# Altium integrated library BB Instrumentation Amplifier.IntLib: 107 symbols (part 2 of 3)
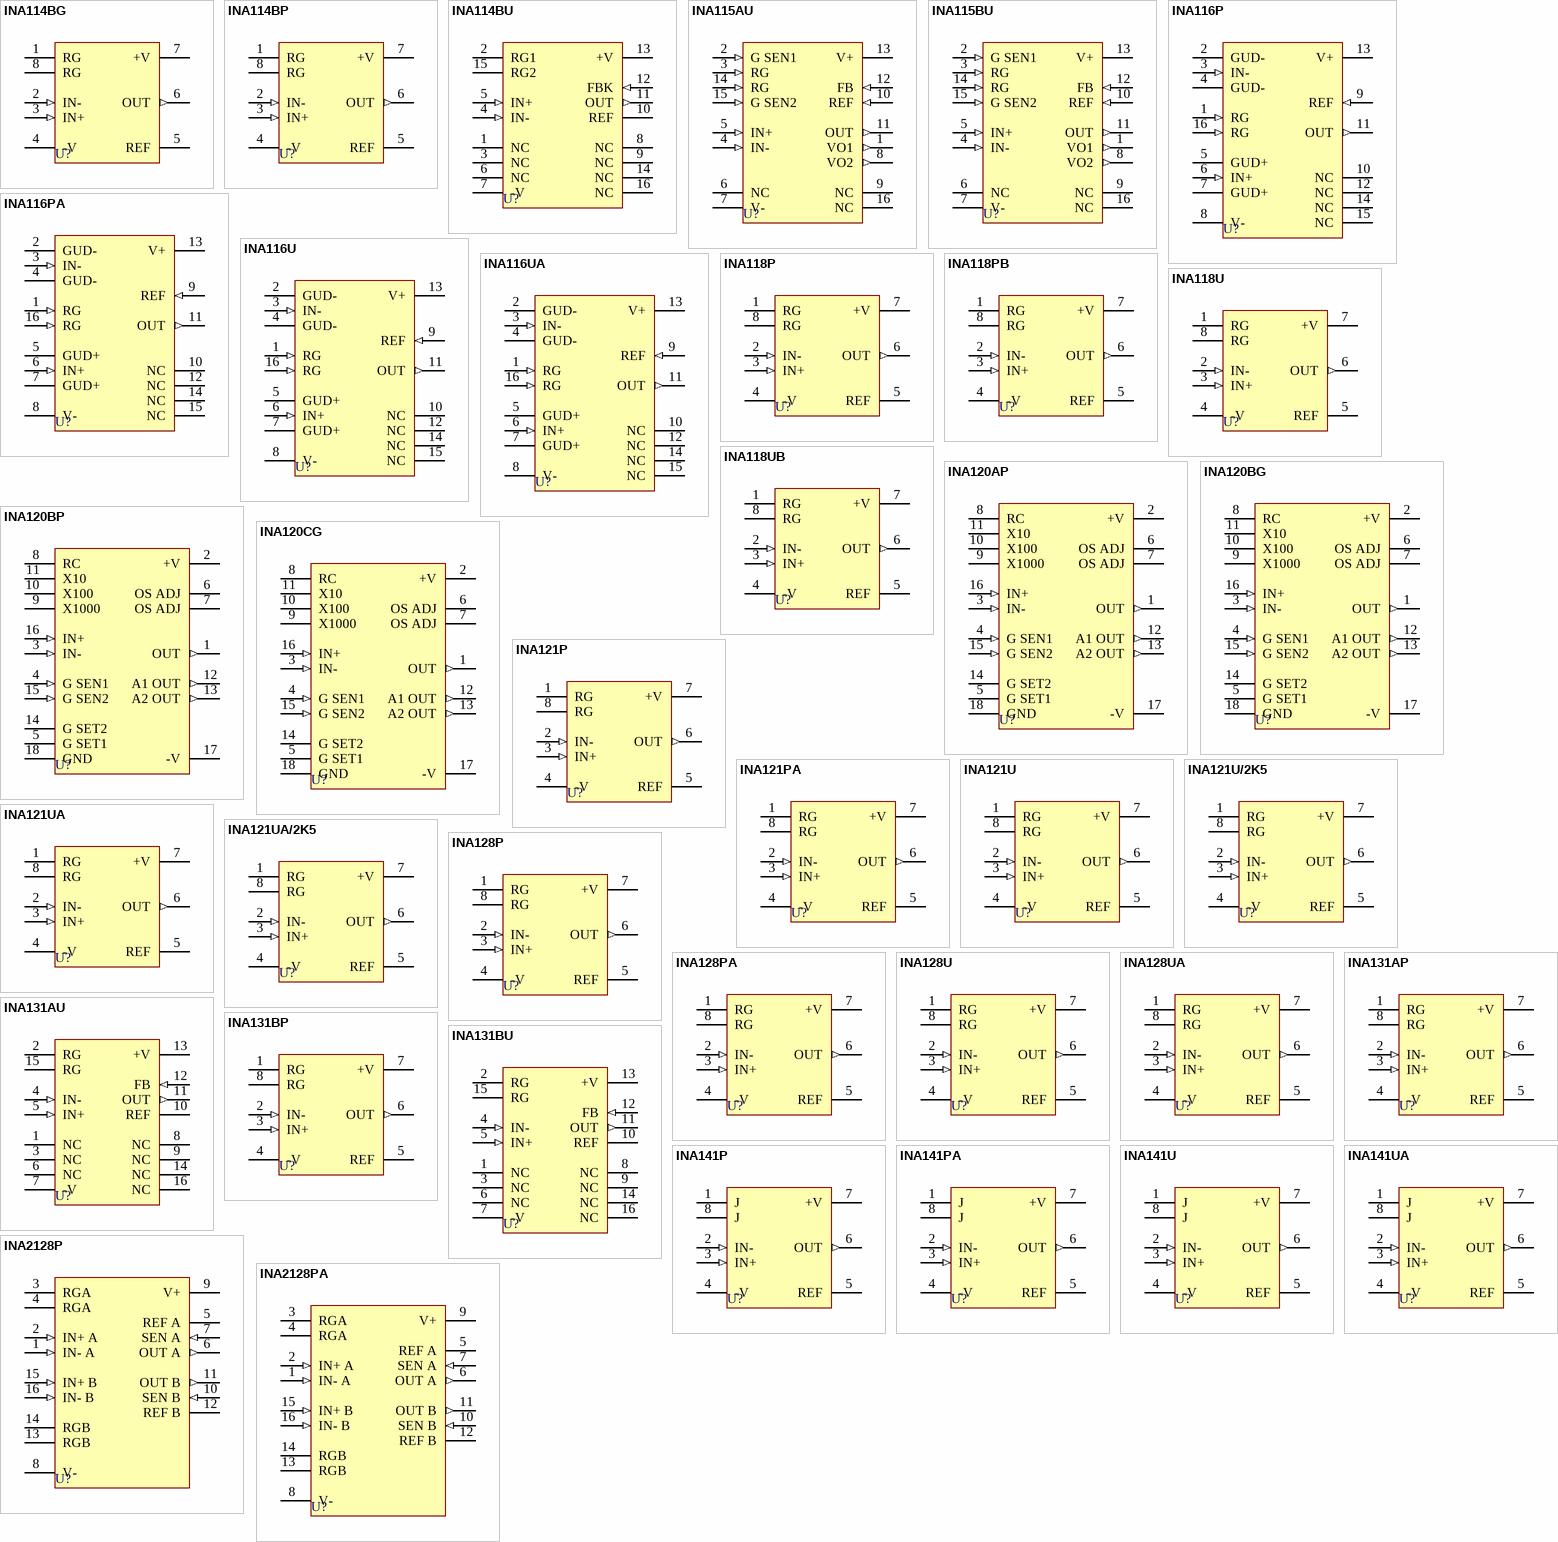
[diagram p3: symbols INA114BG to INA2128PA]

## INA121U/2K5
designator U?
FET-Input, Low Power Instrumentation Amplifier; Published: 17-Jul-2002; LatestRevisionDate: 13-Apr-2006; LatestRevisionNote: IPC-7351 Footprint Added.; DatasheetVersion: May-1998; PackageReference: 182H; Publisher: Altium Limited; PackageDescription: 8-Pin Small Outline Integrated Circuit 1.27 mm Pitch; Code_JEDEC: MS-012-AA; Code_IPC: SOIC127P600-8; ComponentLink1Description: Manufacturer Link; ComponentLink1URL: http://www.ti.com/; ComponentLink2Description: Datasheet; ComponentLink2URL: http://www-s.ti.com/sc/ds/INA121.pdf
footprint 182H_N (SOIC, 8-Leads, Body 4.9x3.9mm, Pitch 1.27mm, IPC Medium Density)
footprint 182H_L (SOIC, 8-Leads, Body 4.9x3.9mm, Pitch 1.27mm, IPC High Density)
footprint 182H_M (SOIC, 8-Leads, Body 4.9x3.9mm, Pitch 1.27mm, IPC Low Density)
3D model SOIC8 (8-Pin Small Outline Integrated Circuit 1.27 mm Pitch)
simulation model INA121E (SUBCKT)
pins: 1 RG, 2 IN- (in), 3 IN+ (in), 4 -V (power), 5 REF, 6 OUT (out), 7 +V (power), 8 RG

## INA121UA
designator U?
FET-Input, Low Power Instrumentation Amplifier; Published: 17-Jul-2002; LatestRevisionDate: 13-Apr-2006; LatestRevisionNote: IPC-7351 Footprint Added.; DatasheetVersion: May-1998; PackageReference: 182H; Publisher: Altium Limited; PackageDescription: 8-Pin Small Outline Integrated Circuit 1.27 mm Pitch; Code_JEDEC: MS-012-AA; Code_IPC: SOIC127P600-8; ComponentLink1Description: Manufacturer Link; ComponentLink1URL: http://www.ti.com/; ComponentLink2Description: Datasheet; ComponentLink2URL: http://www-s.ti.com/sc/ds/INA121.pdf
footprint 182H_N (SOIC, 8-Leads, Body 4.9x3.9mm, Pitch 1.27mm, IPC Medium Density)
footprint 182H_L (SOIC, 8-Leads, Body 4.9x3.9mm, Pitch 1.27mm, IPC High Density)
footprint 182H_M (SOIC, 8-Leads, Body 4.9x3.9mm, Pitch 1.27mm, IPC Low Density)
3D model SOIC8 (8-Pin Small Outline Integrated Circuit 1.27 mm Pitch)
simulation model INA121E (SUBCKT)
pins: 1 RG, 2 IN- (in), 3 IN+ (in), 4 -V (power), 5 REF, 6 OUT (out), 7 +V (power), 8 RG

## INA121UA/2K5
designator U?
FET-Input, Low Power Instrumentation Amplifier; Published: 17-Jul-2002; LatestRevisionDate: 13-Apr-2006; LatestRevisionNote: IPC-7351 Footprint Added.; DatasheetVersion: May-1998; PackageReference: 182H; Publisher: Altium Limited; PackageDescription: 8-Pin Small Outline Integrated Circuit 1.27 mm Pitch; Code_JEDEC: MS-012-AA; Code_IPC: SOIC127P600-8; ComponentLink1Description: Manufacturer Link; ComponentLink1URL: http://www.ti.com/; ComponentLink2Description: Datasheet; ComponentLink2URL: http://www-s.ti.com/sc/ds/INA121.pdf
footprint 182H_N (SOIC, 8-Leads, Body 4.9x3.9mm, Pitch 1.27mm, IPC Medium Density)
footprint 182H_L (SOIC, 8-Leads, Body 4.9x3.9mm, Pitch 1.27mm, IPC High Density)
footprint 182H_M (SOIC, 8-Leads, Body 4.9x3.9mm, Pitch 1.27mm, IPC Low Density)
3D model SOIC8 (8-Pin Small Outline Integrated Circuit 1.27 mm Pitch)
simulation model INA121E (SUBCKT)
pins: 1 RG, 2 IN- (in), 3 IN+ (in), 4 -V (power), 5 REF, 6 OUT (out), 7 +V (power), 8 RG

## INA128P
designator U?
Precision, Low-Power Instrumentation Amplifiers; Published: 8-Jun-2000; LatestRevisionDate: 06-Jun-2005; LatestRevisionNote: Stylized 3D Model Added.; DatasheetVersion: Oct-1996; PackageVersion: revE; PackageReference: 006E; Publisher: Altium Limited; PackageDescription: DIP; 8 Leads; Row Spacing 7.62 mm; Pitch 2.54 mm; ComponentLink1Description: Manufacturer Link; ComponentLink1URL: http://www.ti.com/; ComponentLink2Description: Datasheet; ComponentLink2URL: http://www-s.ti.com/sc/ds/INA128.pdf
footprint 006E (DIP; 8 Leads; Row Spacing 7.62 mm; Pitch 2.54 mm)
3D model DIP8 (DIP; 8 Leads; Row Spacing 7.62 mm; Pitch 2.54 mm)
simulation model INA128 (SUBCKT)
pins: 1 RG, 2 IN- (in), 3 IN+ (in), 4 -V (power), 5 REF, 6 OUT (out), 7 +V (power), 8 RG

## INA128PA
designator U?
Precision, Low-Power Instrumentation Amplifiers; Published: 8-Jun-2000; LatestRevisionDate: 06-Jun-2005; LatestRevisionNote: Stylized 3D Model Added.; DatasheetVersion: Oct-1996; PackageVersion: revE; PackageReference: 006E; Publisher: Altium Limited; PackageDescription: DIP; 8 Leads; Row Spacing 7.62 mm; Pitch 2.54 mm; ComponentLink1Description: Manufacturer Link; ComponentLink1URL: http://www.ti.com/; ComponentLink2Description: Datasheet; ComponentLink2URL: http://www-s.ti.com/sc/ds/INA128.pdf
footprint 006E (DIP; 8 Leads; Row Spacing 7.62 mm; Pitch 2.54 mm)
3D model DIP8 (DIP; 8 Leads; Row Spacing 7.62 mm; Pitch 2.54 mm)
simulation model INA128 (SUBCKT)
pins: 1 RG, 2 IN- (in), 3 IN+ (in), 4 -V (power), 5 REF, 6 OUT (out), 7 +V (power), 8 RG

## INA128U
designator U?
Precision, Low-Power Instrumentation Amplifiers; Published: 8-Jun-2000; LatestRevisionDate: 13-Apr-2006; LatestRevisionNote: IPC-7351 Footprint Added.; DatasheetVersion: Oct-1996; PackageReference: 182H; Publisher: Altium Limited; PackageDescription: 8-Pin Small Outline Integrated Circuit 1.27 mm Pitch; Code_JEDEC: MS-012-AA; Code_IPC: SOIC127P600-8; ComponentLink1Description: Manufacturer Link; ComponentLink1URL: http://www.ti.com/; ComponentLink2Description: Datasheet; ComponentLink2URL: http://www-s.ti.com/sc/ds/INA128.pdf
footprint 182H_N (SOIC, 8-Leads, Body 4.9x3.9mm, Pitch 1.27mm, IPC Medium Density)
footprint 182H_L (SOIC, 8-Leads, Body 4.9x3.9mm, Pitch 1.27mm, IPC High Density)
footprint 182H_M (SOIC, 8-Leads, Body 4.9x3.9mm, Pitch 1.27mm, IPC Low Density)
3D model SOIC8 (8-Pin Small Outline Integrated Circuit 1.27 mm Pitch)
simulation model INA128 (SUBCKT)
pins: 1 RG, 2 IN- (in), 3 IN+ (in), 4 -V (power), 5 REF, 6 OUT (out), 7 +V (power), 8 RG

## INA128UA
designator U?
Precision, Low-Power Instrumentation Amplifiers; Published: 8-Jun-2000; LatestRevisionDate: 13-Apr-2006; LatestRevisionNote: IPC-7351 Footprint Added.; DatasheetVersion: Oct-1996; PackageReference: 182H; Publisher: Altium Limited; PackageDescription: 8-Pin Small Outline Integrated Circuit 1.27 mm Pitch; Code_JEDEC: MS-012-AA; Code_IPC: SOIC127P600-8; ComponentLink1Description: Manufacturer Link; ComponentLink1URL: http://www.ti.com/; ComponentLink2Description: Datasheet; ComponentLink2URL: http://www-s.ti.com/sc/ds/INA128.pdf
footprint 182H_N (SOIC, 8-Leads, Body 4.9x3.9mm, Pitch 1.27mm, IPC Medium Density)
footprint 182H_L (SOIC, 8-Leads, Body 4.9x3.9mm, Pitch 1.27mm, IPC High Density)
footprint 182H_M (SOIC, 8-Leads, Body 4.9x3.9mm, Pitch 1.27mm, IPC Low Density)
3D model SOIC8 (8-Pin Small Outline Integrated Circuit 1.27 mm Pitch)
simulation model INA128 (SUBCKT)
pins: 1 RG, 2 IN- (in), 3 IN+ (in), 4 -V (power), 5 REF, 6 OUT (out), 7 +V (power), 8 RG

## INA131AP
designator U?
Precision G=100 Instrumentation Amplifier; Published: 8-Jun-2000; LatestRevisionDate: 06-Jun-2005; LatestRevisionNote: Stylized 3D Model Added.; DatasheetVersion: Mar-1998; PackageVersion: revE; PackageReference: 006E; Publisher: Altium Limited; PackageDescription: DIP; 8 Leads; Row Spacing 7.62 mm; Pitch 2.54 mm; ComponentLink1Description: Manufacturer Link; ComponentLink1URL: http://www.ti.com/; ComponentLink2Description: Datasheet; ComponentLink2URL: http://www-s.ti.com/sc/ds/INA131.pdf
footprint 006E (DIP; 8 Leads; Row Spacing 7.62 mm; Pitch 2.54 mm)
3D model DIP8 (DIP; 8 Leads; Row Spacing 7.62 mm; Pitch 2.54 mm)
simulation model INA131 (SUBCKT)
pins: 1 RG, 2 IN- (in), 3 IN+ (in), 4 -V (power), 5 REF, 6 OUT (out), 7 +V (power), 8 RG

## INA131AU
designator U?
Precision G=100 Instrumentation Amplifier; Note: Pins 1,3,6,8,9,14 and 16 are No internal Connection (NC) pins.; Published: 8-Jun-2000; LatestRevisionDate: 13-Apr-2006; LatestRevisionNote: IPC-7351 Footprint Added.; DatasheetVersion: 1994; PackageReference: 211F; Publisher: Altium Limited; PackageDescription: 16-Pin Small Outline Integrated Circuit 1.27 mm Pitch; Code_JEDEC: MS-013-AA; Code_IPC: SOIC127P1030-16; ComponentLink1Description: Manufacturer Link; ComponentLink1URL: http://www.ti.com/; ComponentLink2Description: Datasheet; ComponentLink2URL: http://www-s.ti.com/sc/ds/ina131.pdf
footprint 211F_N (SOIC, 16-Leads, Body 10.3x7.5mm, Pitch 1.27mm, IPC Medium Density)
footprint 211F_L (SOIC, 16-Leads, Body 10.3x7.5mm, Pitch 1.27mm, IPC High Density)
footprint 211F_M (SOIC, 16-Leads, Body 10.3x7.5mm, Pitch 1.27mm, IPC Low Density)
3D model SOIC16 (16-Pin Small Outline Integrated Circuit 1.27 mm Pitch)
simulation model INA131 (SUBCKT)
pins: 1 NC, 2 RG, 3 NC, 4 IN- (in), 5 IN+ (in), 6 NC, 7 -V (power), 8 NC, 9 NC, 10 REF, 11 OUT (out), 12 FB (in), 13 +V (power), 14 NC, 15 RG, 16 NC

## INA131BP
designator U?
Precision G=100 Instrumentation Amplifier; Published: 8-Jun-2000; LatestRevisionDate: 06-Jun-2005; LatestRevisionNote: Stylized 3D Model Added.; DatasheetVersion: Mar-1998; PackageVersion: revE; PackageReference: 006E; Publisher: Altium Limited; PackageDescription: DIP; 8 Leads; Row Spacing 7.62 mm; Pitch 2.54 mm; ComponentLink1Description: Manufacturer Link; ComponentLink1URL: http://www.ti.com/; ComponentLink2Description: Datasheet; ComponentLink2URL: http://www-s.ti.com/sc/ds/INA131.pdf
footprint 006E (DIP; 8 Leads; Row Spacing 7.62 mm; Pitch 2.54 mm)
3D model DIP8 (DIP; 8 Leads; Row Spacing 7.62 mm; Pitch 2.54 mm)
simulation model INA131 (SUBCKT)
pins: 1 RG, 2 IN- (in), 3 IN+ (in), 4 -V (power), 5 REF, 6 OUT (out), 7 +V (power), 8 RG

## INA131BU
designator U?
Precision G=100 Instrumentation Amplifier; Note: Pins 1,3,6,8,9,14 and 16 are No internal Connection (NC) pins.; Published: 8-Jun-2000; LatestRevisionDate: 13-Apr-2006; LatestRevisionNote: IPC-7351 Footprint Added.; DatasheetVersion: 1994; PackageReference: 211F; Publisher: Altium Limited; PackageDescription: 16-Pin Small Outline Integrated Circuit 1.27 mm Pitch; Code_JEDEC: MS-013-AA; Code_IPC: SOIC127P1030-16; ComponentLink1Description: Manufacturer Link; ComponentLink1URL: http://www.ti.com/; ComponentLink2Description: Datasheet; ComponentLink2URL: http://www-s.ti.com/sc/ds/ina131.pdf
footprint 211F_N (SOIC, 16-Leads, Body 10.3x7.5mm, Pitch 1.27mm, IPC Medium Density)
footprint 211F_L (SOIC, 16-Leads, Body 10.3x7.5mm, Pitch 1.27mm, IPC High Density)
footprint 211F_M (SOIC, 16-Leads, Body 10.3x7.5mm, Pitch 1.27mm, IPC Low Density)
3D model SOIC16 (16-Pin Small Outline Integrated Circuit 1.27 mm Pitch)
simulation model INA131 (SUBCKT)
pins: 1 NC, 2 RG, 3 NC, 4 IN- (in), 5 IN+ (in), 6 NC, 7 -V (power), 8 NC, 9 NC, 10 REF, 11 OUT (out), 12 FB (in), 13 +V (power), 14 NC, 15 RG, 16 NC

## INA141P
designator U?
Precision, Low-Power, G=10,100 Instrumentation Amplifier; Published: 8-Jun-2000; LatestRevisionDate: 06-Jun-2005; LatestRevisionNote: Stylized 3D Model Added.; PackageVersion: revE; PackageReference: 006E; Publisher: Altium Limited; PackageDescription: DIP; 8 Leads; Row Spacing 7.62 mm; Pitch 2.54 mm; ComponentLink1Description: Manufacturer Link; ComponentLink1URL: http://www.ti.com/; ComponentLink2Description: Datasheet; ComponentLink2URL: http://www-s.ti.com/sc/ds/INA141.pdf
footprint 006E (DIP; 8 Leads; Row Spacing 7.62 mm; Pitch 2.54 mm)
3D model DIP8 (DIP; 8 Leads; Row Spacing 7.62 mm; Pitch 2.54 mm)
pins: 1 J, 2 IN- (in), 3 IN+ (in), 4 -V (power), 5 REF, 6 OUT (out), 7 +V (power), 8 J

## INA141PA
designator U?
Precision, Low-Power, G=10,100 Instrumentation Amplifier; Published: 8-Jun-2000; LatestRevisionDate: 06-Jun-2005; LatestRevisionNote: Stylized 3D Model Added.; PackageVersion: revE; PackageReference: 006E; Publisher: Altium Limited; PackageDescription: DIP; 8 Leads; Row Spacing 7.62 mm; Pitch 2.54 mm; ComponentLink1Description: Manufacturer Link; ComponentLink1URL: http://www.ti.com/; ComponentLink2Description: Datasheet; ComponentLink2URL: http://www-s.ti.com/sc/ds/INA141.pdf
footprint 006E (DIP; 8 Leads; Row Spacing 7.62 mm; Pitch 2.54 mm)
3D model DIP8 (DIP; 8 Leads; Row Spacing 7.62 mm; Pitch 2.54 mm)
pins: 1 J, 2 IN- (in), 3 IN+ (in), 4 -V (power), 5 REF, 6 OUT (out), 7 +V (power), 8 J

## INA141U
designator U?
Precision, Low-Power, G=10,100 Instrumentation Amplifier; Published: 8-Jun-2000; LatestRevisionDate: 13-Apr-2006; LatestRevisionNote: IPC-7351 Footprint Added.; PackageReference: 182H; Publisher: Altium Limited; PackageDescription: 8-Pin Small Outline Integrated Circuit 1.27 mm Pitch; Code_JEDEC: MS-012-AA; Code_IPC: SOIC127P600-8; ComponentLink1Description: Manufacturer Link; ComponentLink1URL: http://www.ti.com/; ComponentLink2Description: Datasheet; ComponentLink2URL: http://www-s.ti.com/sc/ds/INA141.pdf
footprint 182H_N (SOIC, 8-Leads, Body 4.9x3.9mm, Pitch 1.27mm, IPC Medium Density)
footprint 182H_L (SOIC, 8-Leads, Body 4.9x3.9mm, Pitch 1.27mm, IPC High Density)
footprint 182H_M (SOIC, 8-Leads, Body 4.9x3.9mm, Pitch 1.27mm, IPC Low Density)
3D model SOIC8 (8-Pin Small Outline Integrated Circuit 1.27 mm Pitch)
pins: 1 J, 2 IN- (in), 3 IN+ (in), 4 -V (power), 5 REF, 6 OUT (out), 7 +V (power), 8 J

## INA141UA
designator U?
Precision, Low-Power, G=10,100 Instrumentation Amplifier; Published: 8-Jun-2000; LatestRevisionDate: 13-Apr-2006; LatestRevisionNote: IPC-7351 Footprint Added.; PackageReference: 182H; Publisher: Altium Limited; PackageDescription: 8-Pin Small Outline Integrated Circuit 1.27 mm Pitch; Code_JEDEC: MS-012-AA; Code_IPC: SOIC127P600-8; ComponentLink1Description: Manufacturer Link; ComponentLink1URL: http://www.ti.com/; ComponentLink2Description: Datasheet; ComponentLink2URL: http://www-s.ti.com/sc/ds/INA141.pdf
footprint 182H_N (SOIC, 8-Leads, Body 4.9x3.9mm, Pitch 1.27mm, IPC Medium Density)
footprint 182H_L (SOIC, 8-Leads, Body 4.9x3.9mm, Pitch 1.27mm, IPC High Density)
footprint 182H_M (SOIC, 8-Leads, Body 4.9x3.9mm, Pitch 1.27mm, IPC Low Density)
3D model SOIC8 (8-Pin Small Outline Integrated Circuit 1.27 mm Pitch)
pins: 1 J, 2 IN- (in), 3 IN+ (in), 4 -V (power), 5 REF, 6 OUT (out), 7 +V (power), 8 J

## INA2128P
designator U?
Dual, Low-Power Instrumentation Amplifier; Published: 8-Jun-2000; LatestRevisionDate: 06-Jun-2005; LatestRevisionNote: Stylized 3D Model Added.; DatasheetVersion: Jan-1996; PackageVersion: revF; PackageReference: ZZ180; Publisher: Altium Limited; PackageDescription: DIP, Plastic; 16 Leads; Row Spacing 7.62 mm; Pitch 2.54 mm; Code_JEDEC: MS-001-BB; ComponentLink1Description: Manufacturer Link; ComponentLink1URL: http://www.ti.com/; ComponentLink2Description: Datasheet; ComponentLink2URL: http://www-s.ti.com/sc/ds/INA2128.pdf
footprint ZZ180 (DIP, Plastic; 16 Leads; Row Spacing 7.62 mm; Pitch 2.54 mm)
3D model ZZ180 (DIP, Plastic; 16 Leads; Row Spacing 7.62 mm; Pitch 2.54 mm)
pins: 1 IN- A (in), 2 IN+ A (in), 3 RGA, 4 RGA, 5 REF A, 6 OUT A (out), 7 SEN A (in), 8 V- (power), 9 V+ (power), 10 SEN B (in), 11 OUT B (out), 12 REF B, 13 RGB, 14 RGB, 15 IN+ B (in), 16 IN- B (in)

## INA2128PA
designator U?
Dual, Low-Power Instrumentation Amplifier; Published: 8-Jun-2000; LatestRevisionDate: 06-Jun-2005; LatestRevisionNote: Stylized 3D Model Added.; DatasheetVersion: Jan-1996; PackageVersion: revF; PackageReference: ZZ180; Publisher: Altium Limited; PackageDescription: DIP, Plastic; 16 Leads; Row Spacing 7.62 mm; Pitch 2.54 mm; Code_JEDEC: MS-001-BB; ComponentLink1Description: Manufacturer Link; ComponentLink1URL: http://www.ti.com/; ComponentLink2Description: Datasheet; ComponentLink2URL: http://www-s.ti.com/sc/ds/INA2128.pdf
footprint ZZ180 (DIP, Plastic; 16 Leads; Row Spacing 7.62 mm; Pitch 2.54 mm)
3D model ZZ180 (DIP, Plastic; 16 Leads; Row Spacing 7.62 mm; Pitch 2.54 mm)
pins: 1 IN- A (in), 2 IN+ A (in), 3 RGA, 4 RGA, 5 REF A, 6 OUT A (out), 7 SEN A (in), 8 V- (power), 9 V+ (power), 10 SEN B (in), 11 OUT B (out), 12 REF B, 13 RGB, 14 RGB, 15 IN+ B (in), 16 IN- B (in)

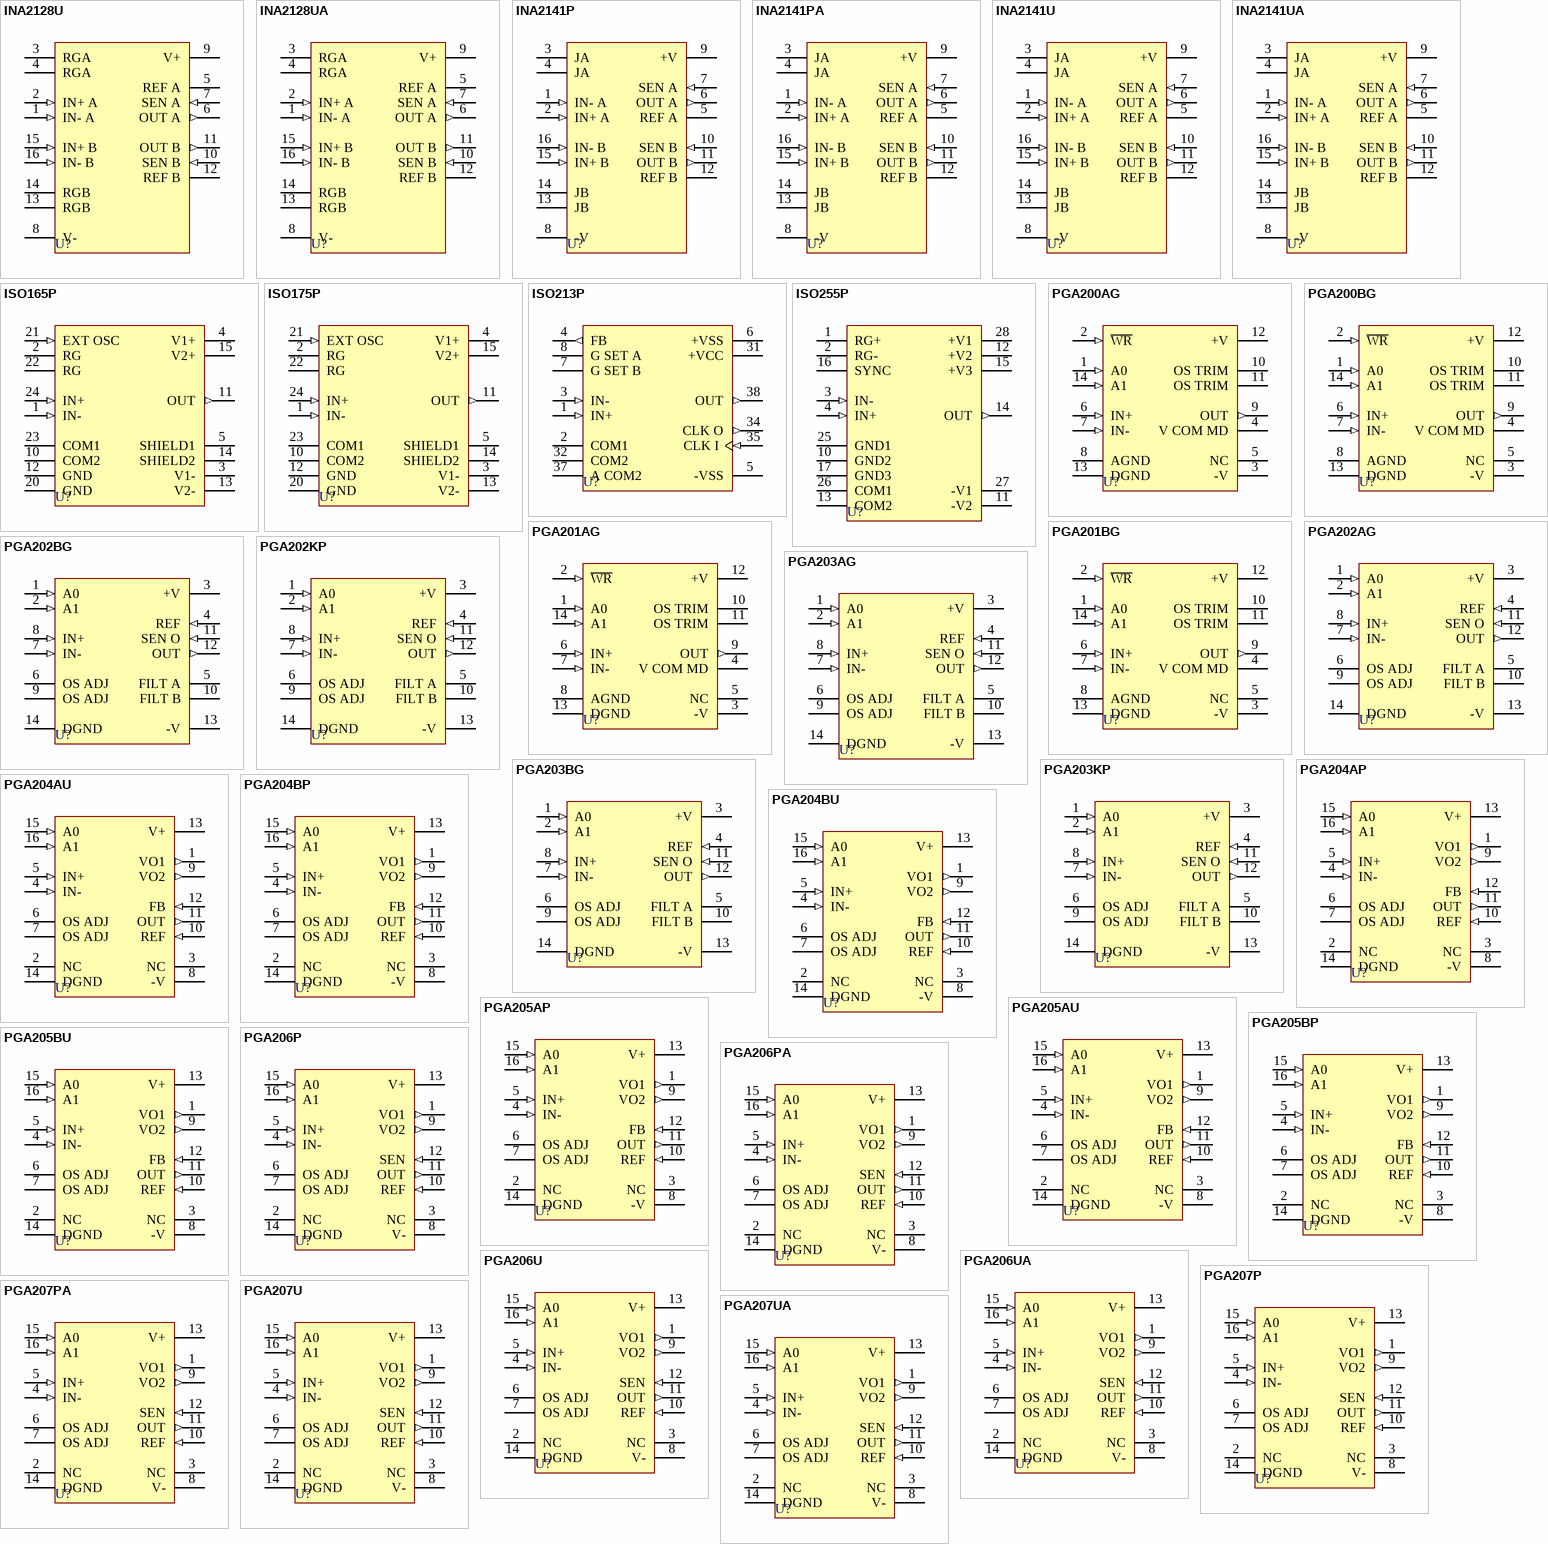
[diagram p2: symbols INA2128U to PGA207UA]

## INA2128U
designator U?
Dual, Low-Power Instrumentation Amplifier; Published: 8-Jun-2000; LatestRevisionDate: 13-Apr-2006; LatestRevisionNote: IPC-7351 Footprint Added.; DatasheetVersion: Jan-1996; PackageReference: 211F; Publisher: Altium Limited; PackageDescription: 16-Pin Small Outline Integrated Circuit 1.27 mm Pitch; Code_JEDEC: MS-013-AA; Code_IPC: SOIC127P1030-16; ComponentLink1Description: Manufacturer Link; ComponentLink1URL: http://www.ti.com/; ComponentLink2Description: Datasheet; ComponentLink2URL: http://www-s.ti.com/sc/ds/INA2128.pdf
footprint 211F_N (SOIC, 16-Leads, Body 10.3x7.5mm, Pitch 1.27mm, IPC Medium Density)
footprint 211F_L (SOIC, 16-Leads, Body 10.3x7.5mm, Pitch 1.27mm, IPC High Density)
footprint 211F_M (SOIC, 16-Leads, Body 10.3x7.5mm, Pitch 1.27mm, IPC Low Density)
3D model SOIC16 (16-Pin Small Outline Integrated Circuit 1.27 mm Pitch)
pins: 1 IN- A (in), 2 IN+ A (in), 3 RGA, 4 RGA, 5 REF A, 6 OUT A (out), 7 SEN A (in), 8 V- (power), 9 V+ (power), 10 SEN B (in), 11 OUT B (out), 12 REF B, 13 RGB, 14 RGB, 15 IN+ B (in), 16 IN- B (in)

## INA2128UA
designator U?
Dual, Low-Power Instrumentation Amplifier; Published: 8-Jun-2000; LatestRevisionDate: 13-Apr-2006; LatestRevisionNote: IPC-7351 Footprint Added.; DatasheetVersion: Jan-1996; PackageReference: 211F; Publisher: Altium Limited; PackageDescription: 16-Pin Small Outline Integrated Circuit 1.27 mm Pitch; Code_JEDEC: MS-013-AA; Code_IPC: SOIC127P1030-16; ComponentLink1Description: Manufacturer Link; ComponentLink1URL: http://www.ti.com/; ComponentLink2Description: Datasheet; ComponentLink2URL: http://www-s.ti.com/sc/ds/INA2128.pdf
footprint 211F_N (SOIC, 16-Leads, Body 10.3x7.5mm, Pitch 1.27mm, IPC Medium Density)
footprint 211F_L (SOIC, 16-Leads, Body 10.3x7.5mm, Pitch 1.27mm, IPC High Density)
footprint 211F_M (SOIC, 16-Leads, Body 10.3x7.5mm, Pitch 1.27mm, IPC Low Density)
3D model SOIC16 (16-Pin Small Outline Integrated Circuit 1.27 mm Pitch)
pins: 1 IN- A (in), 2 IN+ A (in), 3 RGA, 4 RGA, 5 REF A, 6 OUT A (out), 7 SEN A (in), 8 V- (power), 9 V+ (power), 10 SEN B (in), 11 OUT B (out), 12 REF B, 13 RGB, 14 RGB, 15 IN+ B (in), 16 IN- B (in)

## INA2141P
designator U?
Dual, Low-Power, G=10, 100 Instrumentation Amplifier; Published: 8-Jun-2000; LatestRevisionDate: 06-Jun-2005; LatestRevisionNote: Stylized 3D Model Added.; DatasheetVersion: Jan-1996; PackageVersion: revF; PackageReference: ZZ180; Publisher: Altium Limited; PackageDescription: DIP, Plastic; 16 Leads; Row Spacing 7.62 mm; Pitch 2.54 mm; Code_JEDEC: MS-001-BB; ComponentLink1Description: Manufacturer Link; ComponentLink1URL: http://www.ti.com/; ComponentLink2Description: Datasheet; ComponentLink2URL: http://www-s.ti.com/sc/ds/INA2141.pdf
footprint ZZ180 (DIP, Plastic; 16 Leads; Row Spacing 7.62 mm; Pitch 2.54 mm)
3D model ZZ180 (DIP, Plastic; 16 Leads; Row Spacing 7.62 mm; Pitch 2.54 mm)
pins: 1 IN- A (in), 2 IN+ A (in), 3 JA, 4 JA, 5 REF A, 6 OUT A (out), 7 SEN A (in), 8 -V (power), 9 +V (power), 10 SEN B (in), 11 OUT B (out), 12 REF B, 13 JB, 14 JB, 15 IN+ B (in), 16 IN- B (in)

## INA2141PA
designator U?
Dual, Low-Power, G=10, 100 Instrumentation Amplifier; Published: 8-Jun-2000; LatestRevisionDate: 06-Jun-2005; LatestRevisionNote: Stylized 3D Model Added.; DatasheetVersion: Jan-1996; PackageVersion: revF; PackageReference: ZZ180; Publisher: Altium Limited; PackageDescription: DIP, Plastic; 16 Leads; Row Spacing 7.62 mm; Pitch 2.54 mm; Code_JEDEC: MS-001-BB; ComponentLink1Description: Manufacturer Link; ComponentLink1URL: http://www.ti.com/; ComponentLink2Description: Datasheet; ComponentLink2URL: http://www-s.ti.com/sc/ds/INA2141.pdf
footprint ZZ180 (DIP, Plastic; 16 Leads; Row Spacing 7.62 mm; Pitch 2.54 mm)
3D model ZZ180 (DIP, Plastic; 16 Leads; Row Spacing 7.62 mm; Pitch 2.54 mm)
pins: 1 IN- A (in), 2 IN+ A (in), 3 JA, 4 JA, 5 REF A, 6 OUT A (out), 7 SEN A (in), 8 -V (power), 9 +V (power), 10 SEN B (in), 11 OUT B (out), 12 REF B, 13 JB, 14 JB, 15 IN+ B (in), 16 IN- B (in)

## INA2141U
designator U?
Dual, Low-Power, G=10, 100 Instrumentation Amplifier; Published: 8-Jun-2000; LatestRevisionDate: 13-Apr-2006; LatestRevisionNote: IPC-7351 Footprint Added.; DatasheetVersion: Jan-1996; PackageReference: 211F; Publisher: Altium Limited; PackageDescription: 16-Pin Small Outline Integrated Circuit 1.27 mm Pitch; Code_JEDEC: MS-013-AA; Code_IPC: SOIC127P1030-16; ComponentLink1Description: Manufacturer Link; ComponentLink1URL: http://www.ti.com/; ComponentLink2Description: Datasheet; ComponentLink2URL: http://www-s.ti.com/sc/ds/INA2141.pdf
footprint 211F_N (SOIC, 16-Leads, Body 10.3x7.5mm, Pitch 1.27mm, IPC Medium Density)
footprint 211F_L (SOIC, 16-Leads, Body 10.3x7.5mm, Pitch 1.27mm, IPC High Density)
footprint 211F_M (SOIC, 16-Leads, Body 10.3x7.5mm, Pitch 1.27mm, IPC Low Density)
3D model SOIC16 (16-Pin Small Outline Integrated Circuit 1.27 mm Pitch)
pins: 1 IN- A (in), 2 IN+ A (in), 3 JA, 4 JA, 5 REF A, 6 OUT A (out), 7 SEN A (in), 8 -V (power), 9 +V (power), 10 SEN B (in), 11 OUT B (out), 12 REF B, 13 JB, 14 JB, 15 IN+ B (in), 16 IN- B (in)

## INA2141UA
designator U?
Dual, Low-Power, G=10, 100 Instrumentation Amplifier; Published: 8-Jun-2000; LatestRevisionDate: 13-Apr-2006; LatestRevisionNote: IPC-7351 Footprint Added.; DatasheetVersion: Jan-1996; PackageReference: 211F; Publisher: Altium Limited; PackageDescription: 16-Pin Small Outline Integrated Circuit 1.27 mm Pitch; Code_JEDEC: MS-013-AA; Code_IPC: SOIC127P1030-16; ComponentLink1Description: Manufacturer Link; ComponentLink1URL: http://www.ti.com/; ComponentLink2Description: Datasheet; ComponentLink2URL: http://www-s.ti.com/sc/ds/INA2141.pdf
footprint 211F_N (SOIC, 16-Leads, Body 10.3x7.5mm, Pitch 1.27mm, IPC Medium Density)
footprint 211F_L (SOIC, 16-Leads, Body 10.3x7.5mm, Pitch 1.27mm, IPC High Density)
footprint 211F_M (SOIC, 16-Leads, Body 10.3x7.5mm, Pitch 1.27mm, IPC Low Density)
3D model SOIC16 (16-Pin Small Outline Integrated Circuit 1.27 mm Pitch)
pins: 1 IN- A (in), 2 IN+ A (in), 3 JA, 4 JA, 5 REF A, 6 OUT A (out), 7 SEN A (in), 8 -V (power), 9 +V (power), 10 SEN B (in), 11 OUT B (out), 12 REF B, 13 JB, 14 JB, 15 IN+ B (in), 16 IN- B (in)

## ISO165P
designator U?
Precision, Isolated Instrumentation Amplifier; Note: No pins present at positions 6 to 9 and 16 to 19.; ComponentAvailability: Obsolete; Published: 8-Jun-2000; LatestRevisionDate: 06-Jun-2005; LatestRevisionNote: Stylized 3D Model Added.; DatasheetVersion: 1996~1997; PackageVersion: revC; PackageReference: 243-2C; Publisher: Altium Limited; PackageDescription: DIP; 24 Leads (8 Absent); Row Spacing 7.62 mm; Pitch 2.54 mm; ComponentLink1Description: Manufacturer Link; ComponentLink1URL: http://www.ti.com/
footprint 243-2C (DIP; 24 Leads (8 Absent); Row Spacing 7.62 mm; Pitch 2.54 mm)
3D model 243-2C (DIP; 24 Leads (8 Absent); Row Spacing 7.62 mm; Pitch 2.54 mm)
pins: 1 IN- (in), 2 RG, 3 V1- (power), 4 V1+ (power), 5 SHIELD1 (power), 10 COM2 (power), 11 OUT (out), 12 GND (power), 13 V2- (power), 14 SHIELD2 (power), 15 V2+ (power), 20 GND (power), 21 EXT OSC (in), 22 RG, 23 COM1 (power), 24 IN+ (in)

## ISO175P
designator U?
Precision, Isolated Instrumentation Amplifier; Note: No pins present at positions 6 to 9 and 16 to 19.; Published: 8-Jun-2000; LatestRevisionDate: 06-Jun-2005; LatestRevisionNote: Stylized 3D Model Added.; DatasheetVersion: May-1996; PackageVersion: revC; PackageReference: 243-2C; Publisher: Altium Limited; PackageDescription: DIP; 24 Leads (8 Absent); Row Spacing 7.62 mm; Pitch 2.54 mm; ComponentLink1Description: Manufacturer Link; ComponentLink1URL: http://www.ti.com/; ComponentLink2Description: Datasheet; ComponentLink2URL: http://www-s.ti.com/sc/ds/ISO175.pdf
footprint 243-2C (DIP; 24 Leads (8 Absent); Row Spacing 7.62 mm; Pitch 2.54 mm)
3D model 243-2C (DIP; 24 Leads (8 Absent); Row Spacing 7.62 mm; Pitch 2.54 mm)
pins: 1 IN- (in), 2 RG, 3 V1- (power), 4 V1+ (power), 5 SHIELD1 (power), 10 COM2 (power), 11 OUT (out), 12 GND (power), 13 V2- (power), 14 SHIELD2 (power), 15 V2+ (power), 20 GND (power), 21 EXT OSC (in), 22 RG, 23 COM1 (power), 24 IN+ (in)

## ISO213P
designator U?
Two-Port Isolated, Low Profile Isolated Instrumentation Amplifier; Note: No pins present at positions 9 to 30, 33 and 36; Published: 8-Jun-2000; LatestRevisionDate: 17-Jul-2002; LatestRevisionNote: Re-released for DXP Platform.; DatasheetVersion: 1996~1997; PackageVersion: 1996/1997; PackageReference: 326B; Publisher: Altium Limited; PackageDescription: ZIP; 38 Leads (24 Absent); Row Space 2.54 mm; Pitch 1.27 mm; ComponentLink1Description: Manufacturer Link; ComponentLink1URL: http://www.ti.com/
footprint 326B (ZIP; 38 Leads (24 Absent); Row Space 2.54 mm; Pitch 1.27 mm)
pins: 1 IN+ (in), 2 COM1 (power), 3 IN- (in), 4 FB (out), 5 -VSS (power), 6 +VSS (power), 7 G SET B, 8 G SET A, 31 +VCC (power), 32 COM2 (power), 34 CLK O (out), 35 CLK I (in), 37 A COM2 (power), 38 OUT (out)

## ISO255P
designator U?
Precision, Powered, Three-Port Isolated Instrumentation Amplifier; Note: No pins present at positions 5 to 9 and 18 to 24.; Published: 8-Jun-2000; LatestRevisionDate: 17-Jul-2002; LatestRevisionNote: Re-released for DXP Platform.; DatasheetVersion: 1996~1997; PackageVersion: revA; PackageReference: ZZ335; Publisher: Altium Limited; PackageDescription: DIP; 28 Round Pins (12 Absent); Row Space 15.24 mm; Pitch 2.54 mm; ComponentLink1Description: Manufacturer Link; ComponentLink1URL: http://www.ti.com/
footprint ZZ335 (DIP; 28 Round Pins (12 Absent); Row Space 15.24 mm; Pitch 2.54 mm)
pins: 1 RG+, 2 RG-, 3 IN- (in), 4 IN+ (in), 10 GND2 (power), 11 -V2 (power), 12 +V2 (power), 13 COM2 (power), 14 OUT (out), 15 +V3 (power), 16 SYNC, 17 GND3 (power), 25 GND1 (power), 26 COM1 (power), 27 -V1 (power), 28 +V1 (power)

## PGA200AG
designator U?
Digitally-Controlled Programmable-Gain Instrumentation Amplifier; Note: Pin 5 is No internal Connection (NC) pin.; Published: 8-Jun-2000; LatestRevisionDate: 17-Jul-2002; LatestRevisionNote: PCB footprint, 'DIP-P14/Y1.1' replaced, Re-released for DXP Platform.; DatasheetVersion: 1989; PackageVersion: revA; PackageReference: ZZ148; Publisher: Altium Limited; PackageDescription: DIP; 14 Rectangular Pins; Row Space 7.62 mm; Pitch 2.54 mm; ComponentLink1Description: Manufacturer Link; ComponentLink1URL: http://www.ti.com/
footprint ZZ148 (DIP; 14 Rectangular Pins; Row Space 7.62 mm; Pitch 2.54 mm)
pins: 1 A0 (in), 2 ~{WR} (in), 3 -V (power), 4 V COM MD, 5 NC, 6 IN+ (in), 7 IN- (in), 8 AGND (power), 9 OUT (out), 10 OS TRIM, 11 OS TRIM, 12 +V (power), 13 DGND (power), 14 A1 (in)

## PGA200BG
designator U?
Digitally-Controlled Programmable-Gain Instrumentation Amplifier; Note: Pin 5 is No internal Connection (NC) pin.; Published: 8-Jun-2000; LatestRevisionDate: 17-Jul-2002; LatestRevisionNote: PCB footprint, 'DIP-P14/Y1.1' replaced, Re-released for DXP Platform.; DatasheetVersion: 1989; PackageVersion: revA; PackageReference: ZZ148; Publisher: Altium Limited; PackageDescription: DIP; 14 Rectangular Pins; Row Space 7.62 mm; Pitch 2.54 mm; ComponentLink1Description: Manufacturer Link; ComponentLink1URL: http://www.ti.com/
footprint ZZ148 (DIP; 14 Rectangular Pins; Row Space 7.62 mm; Pitch 2.54 mm)
pins: 1 A0 (in), 2 ~{WR} (in), 3 -V (power), 4 V COM MD, 5 NC, 6 IN+ (in), 7 IN- (in), 8 AGND (power), 9 OUT (out), 10 OS TRIM, 11 OS TRIM, 12 +V (power), 13 DGND (power), 14 A1 (in)

## PGA201AG
designator U?
Digitally-Controlled Programmable-Gain Instrumentation Amplifier; Note: Pin 5 is No internal Connection (NC) pin.; Published: 8-Jun-2000; LatestRevisionDate: 17-Jul-2002; LatestRevisionNote: PCB footprint, 'DIP-P14/Y1.1' replaced, Re-released for DXP Platform.; DatasheetVersion: 1989; PackageVersion: revA; PackageReference: ZZ148; Publisher: Altium Limited; PackageDescription: DIP; 14 Rectangular Pins; Row Space 7.62 mm; Pitch 2.54 mm; ComponentLink1Description: Manufacturer Link; ComponentLink1URL: http://www.ti.com/
footprint ZZ148 (DIP; 14 Rectangular Pins; Row Space 7.62 mm; Pitch 2.54 mm)
pins: 1 A0 (in), 2 ~{WR} (in), 3 -V (power), 4 V COM MD, 5 NC, 6 IN+ (in), 7 IN- (in), 8 AGND (power), 9 OUT (out), 10 OS TRIM, 11 OS TRIM, 12 +V (power), 13 DGND (power), 14 A1 (in)

## PGA201BG
designator U?
Digitally-Controlled Programmable-Gain Instrumentation Amplifier; Note: Pin 5 is No internal Connection (NC) pin.; Published: 8-Jun-2000; LatestRevisionDate: 17-Jul-2002; LatestRevisionNote: PCB footprint, 'DIP-P14/Y1.1' replaced, Re-released for DXP Platform.; DatasheetVersion: 1989; PackageVersion: revA; PackageReference: ZZ148; Publisher: Altium Limited; PackageDescription: DIP; 14 Rectangular Pins; Row Space 7.62 mm; Pitch 2.54 mm; ComponentLink1Description: Manufacturer Link; ComponentLink1URL: http://www.ti.com/
footprint ZZ148 (DIP; 14 Rectangular Pins; Row Space 7.62 mm; Pitch 2.54 mm)
pins: 1 A0 (in), 2 ~{WR} (in), 3 -V (power), 4 V COM MD, 5 NC, 6 IN+ (in), 7 IN- (in), 8 AGND (power), 9 OUT (out), 10 OS TRIM, 11 OS TRIM, 12 +V (power), 13 DGND (power), 14 A1 (in)

## PGA202AG
designator U?
Digitally-Controlled Programmable Gain Instrumentation Amplifier; Published: 8-Jun-2000; LatestRevisionDate: 06-Jun-2005; LatestRevisionNote: Stylized 3D Model Added.; DatasheetVersion: Aug-1993; PackageVersion: 1996/1997; PackageReference: 169F; Publisher: Altium Limited; PackageDescription: DIP; 14 Leads; Row Spacing 7.62 mm; Pitch 2.54 mm; ComponentLink1Description: Manufacturer Link; ComponentLink1URL: http://www.ti.com/; ComponentLink2Description: Datasheet; ComponentLink2URL: http://www-s.ti.com/sc/ds/PGA202.pdf
footprint 169F (DIP; 14 Leads; Row Spacing 7.62 mm; Pitch 2.54 mm)
3D model 010G (DIP; 14 Leads; Row Spacing 7.62 mm; Pitch 2.54 mm)
pins: 1 A0 (in), 2 A1 (in), 3 +V (power), 4 REF (in), 5 FILT A, 6 OS ADJ, 7 IN- (in), 8 IN+ (in), 9 OS ADJ, 10 FILT B, 11 SEN O (in), 12 OUT (out), 13 -V (power), 14 DGND (power)

## PGA202BG
designator U?
Digitally-Controlled Programmable Gain Instrumentation Amplifier; Published: 8-Jun-2000; LatestRevisionDate: 06-Jun-2005; LatestRevisionNote: Stylized 3D Model Added.; DatasheetVersion: Aug-1993; PackageVersion: 1996/1997; PackageReference: 169F; Publisher: Altium Limited; PackageDescription: DIP; 14 Leads; Row Spacing 7.62 mm; Pitch 2.54 mm; ComponentLink1Description: Manufacturer Link; ComponentLink1URL: http://www.ti.com/; ComponentLink2Description: Datasheet; ComponentLink2URL: http://www-s.ti.com/sc/ds/PGA202.pdf
footprint 169F (DIP; 14 Leads; Row Spacing 7.62 mm; Pitch 2.54 mm)
3D model 010G (DIP; 14 Leads; Row Spacing 7.62 mm; Pitch 2.54 mm)
pins: 1 A0 (in), 2 A1 (in), 3 +V (power), 4 REF (in), 5 FILT A, 6 OS ADJ, 7 IN- (in), 8 IN+ (in), 9 OS ADJ, 10 FILT B, 11 SEN O (in), 12 OUT (out), 13 -V (power), 14 DGND (power)

## PGA202KP
designator U?
Digitally-Controlled Programmable Gain Instrumentation Amplifier; Published: 8-Jun-2000; LatestRevisionDate: 06-Jun-2005; LatestRevisionNote: Stylized 3D Model Added.; DatasheetVersion: Aug-1993; PackageVersion: 1996/1997; PackageReference: 010G; Publisher: Altium Limited; PackageDescription: DIP; 14 Leads; Row Spacing 7.62 mm; Pitch 2.54 mm; ComponentLink1Description: Manufacturer Link; ComponentLink1URL: http://www.ti.com/; ComponentLink2Description: Datasheet; ComponentLink2URL: http://www-s.ti.com/sc/ds/PGA202.pdf
footprint 010G (DIP; 14 Leads; Row Spacing 7.62 mm; Pitch 2.54 mm)
3D model 010G (DIP; 14 Leads; Row Spacing 7.62 mm; Pitch 2.54 mm)
pins: 1 A0 (in), 2 A1 (in), 3 +V (power), 4 REF (in), 5 FILT A, 6 OS ADJ, 7 IN- (in), 8 IN+ (in), 9 OS ADJ, 10 FILT B, 11 SEN O (in), 12 OUT (out), 13 -V (power), 14 DGND (power)

## PGA203AG
designator U?
Digitally-Controlled Programmable Gain Instrumentation Amplifier; Published: 8-Jun-2000; LatestRevisionDate: 06-Jun-2005; LatestRevisionNote: Stylized 3D Model Added.; DatasheetVersion: Aug-1993; PackageVersion: 1996/1997; PackageReference: 169F; Publisher: Altium Limited; PackageDescription: DIP; 14 Leads; Row Spacing 7.62 mm; Pitch 2.54 mm; ComponentLink1Description: Manufacturer Link; ComponentLink1URL: http://www.ti.com/; ComponentLink2Description: Datasheet; ComponentLink2URL: http://www-s.ti.com/sc/ds/PGA202.pdf
footprint 169F (DIP; 14 Leads; Row Spacing 7.62 mm; Pitch 2.54 mm)
3D model 010G (DIP; 14 Leads; Row Spacing 7.62 mm; Pitch 2.54 mm)
pins: 1 A0 (in), 2 A1 (in), 3 +V (power), 4 REF (in), 5 FILT A, 6 OS ADJ, 7 IN- (in), 8 IN+ (in), 9 OS ADJ, 10 FILT B, 11 SEN O (in), 12 OUT (out), 13 -V (power), 14 DGND (power)

## PGA203BG
designator U?
Digitally-Controlled Programmable Gain Instrumentation Amplifier; Published: 8-Jun-2000; LatestRevisionDate: 06-Jun-2005; LatestRevisionNote: Stylized 3D Model Added.; DatasheetVersion: Aug-1993; PackageVersion: 1996/1997; PackageReference: 169F; Publisher: Altium Limited; PackageDescription: DIP; 14 Leads; Row Spacing 7.62 mm; Pitch 2.54 mm; ComponentLink1Description: Manufacturer Link; ComponentLink1URL: http://www.ti.com/; ComponentLink2Description: Datasheet; ComponentLink2URL: http://www-s.ti.com/sc/ds/PGA202.pdf
footprint 169F (DIP; 14 Leads; Row Spacing 7.62 mm; Pitch 2.54 mm)
3D model 010G (DIP; 14 Leads; Row Spacing 7.62 mm; Pitch 2.54 mm)
pins: 1 A0 (in), 2 A1 (in), 3 +V (power), 4 REF (in), 5 FILT A, 6 OS ADJ, 7 IN- (in), 8 IN+ (in), 9 OS ADJ, 10 FILT B, 11 SEN O (in), 12 OUT (out), 13 -V (power), 14 DGND (power)

## PGA203KP
designator U?
Digitally-Controlled Programmable Gain Instrumentation Amplifier; Published: 8-Jun-2000; LatestRevisionDate: 06-Jun-2005; LatestRevisionNote: Stylized 3D Model Added.; DatasheetVersion: Aug-1993; PackageVersion: 1996/1997; PackageReference: 010G; Publisher: Altium Limited; PackageDescription: DIP; 14 Leads; Row Spacing 7.62 mm; Pitch 2.54 mm; ComponentLink1Description: Manufacturer Link; ComponentLink1URL: http://www.ti.com/; ComponentLink2Description: Datasheet; ComponentLink2URL: http://www-s.ti.com/sc/ds/PGA202.pdf
footprint 010G (DIP; 14 Leads; Row Spacing 7.62 mm; Pitch 2.54 mm)
3D model 010G (DIP; 14 Leads; Row Spacing 7.62 mm; Pitch 2.54 mm)
pins: 1 A0 (in), 2 A1 (in), 3 +V (power), 4 REF (in), 5 FILT A, 6 OS ADJ, 7 IN- (in), 8 IN+ (in), 9 OS ADJ, 10 FILT B, 11 SEN O (in), 12 OUT (out), 13 -V (power), 14 DGND (power)

## PGA204AP
designator U?
Programmable Gain Instrumentation Amplifier; Note: Pins 2 and 3 are No internal Connection (NC) pins.; Published: 8-Jun-2000; LatestRevisionDate: 06-Jun-2005; LatestRevisionNote: Stylized 3D Model Added.; DatasheetVersion: Oct-1993; PackageVersion: revF; PackageReference: ZZ180; Publisher: Altium Limited; PackageDescription: DIP, Plastic; 16 Leads; Row Spacing 7.62 mm; Pitch 2.54 mm; Code_JEDEC: MS-001-BB; ComponentLink1Description: Manufacturer Link; ComponentLink1URL: http://www.ti.com/; ComponentLink2Description: Datasheet; ComponentLink2URL: http://www-s.ti.com/sc/ds/PGA204.pdf
footprint ZZ180 (DIP, Plastic; 16 Leads; Row Spacing 7.62 mm; Pitch 2.54 mm)
3D model ZZ180 (DIP, Plastic; 16 Leads; Row Spacing 7.62 mm; Pitch 2.54 mm)
pins: 1 VO1 (out), 2 NC, 3 NC, 4 IN- (in), 5 IN+ (in), 6 OS ADJ, 7 OS ADJ, 8 -V (power), 9 VO2 (out), 10 REF (in), 11 OUT (out), 12 FB (in), 13 V+ (power), 14 DGND (power), 15 A0 (in), 16 A1 (in)

## PGA204AU
designator U?
Programmable Gain Instrumentation Amplifier; Note: Pins 2 and 3 are No internal Connection (NC) pins.; Published: 8-Jun-2000; LatestRevisionDate: 13-Apr-2006; LatestRevisionNote: IPC-7351 Footprint Added.; DatasheetVersion: Oct-1993; PackageReference: 211F; Publisher: Altium Limited; PackageDescription: 16-Pin Small Outline Integrated Circuit 1.27 mm Pitch; Code_JEDEC: MS-013-AA; Code_IPC: SOIC127P1030-16; ComponentLink1Description: Manufacturer Link; ComponentLink1URL: http://www.ti.com/; ComponentLink2Description: Datasheet; ComponentLink2URL: http://www-s.ti.com/sc/ds/PGA204.pdf
footprint 211F_N (SOIC, 16-Leads, Body 10.3x7.5mm, Pitch 1.27mm, IPC Medium Density)
footprint 211F_L (SOIC, 16-Leads, Body 10.3x7.5mm, Pitch 1.27mm, IPC High Density)
footprint 211F_M (SOIC, 16-Leads, Body 10.3x7.5mm, Pitch 1.27mm, IPC Low Density)
3D model SOIC16 (16-Pin Small Outline Integrated Circuit 1.27 mm Pitch)
pins: 1 VO1 (out), 2 NC, 3 NC, 4 IN- (in), 5 IN+ (in), 6 OS ADJ, 7 OS ADJ, 8 -V (power), 9 VO2 (out), 10 REF (in), 11 OUT (out), 12 FB (in), 13 V+ (power), 14 DGND (power), 15 A0 (in), 16 A1 (in)

## PGA204BP
designator U?
Programmable Gain Instrumentation Amplifier; Note: Pins 2 and 3 are No internal Connection (NC) pins.; Published: 8-Jun-2000; LatestRevisionDate: 06-Jun-2005; LatestRevisionNote: Stylized 3D Model Added.; DatasheetVersion: Oct-1993; PackageVersion: revF; PackageReference: ZZ180; Publisher: Altium Limited; PackageDescription: DIP, Plastic; 16 Leads; Row Spacing 7.62 mm; Pitch 2.54 mm; Code_JEDEC: MS-001-BB; ComponentLink1Description: Manufacturer Link; ComponentLink1URL: http://www.ti.com/; ComponentLink2Description: Datasheet; ComponentLink2URL: http://www-s.ti.com/sc/ds/PGA204.pdf
footprint ZZ180 (DIP, Plastic; 16 Leads; Row Spacing 7.62 mm; Pitch 2.54 mm)
3D model ZZ180 (DIP, Plastic; 16 Leads; Row Spacing 7.62 mm; Pitch 2.54 mm)
pins: 1 VO1 (out), 2 NC, 3 NC, 4 IN- (in), 5 IN+ (in), 6 OS ADJ, 7 OS ADJ, 8 -V (power), 9 VO2 (out), 10 REF (in), 11 OUT (out), 12 FB (in), 13 V+ (power), 14 DGND (power), 15 A0 (in), 16 A1 (in)

## PGA204BU
designator U?
Programmable Gain Instrumentation Amplifier; Note: Pins 2 and 3 are No internal Connection (NC) pins.; Published: 8-Jun-2000; LatestRevisionDate: 13-Apr-2006; LatestRevisionNote: IPC-7351 Footprint Added.; DatasheetVersion: Oct-1993; PackageReference: 211F; Publisher: Altium Limited; PackageDescription: 16-Pin Small Outline Integrated Circuit 1.27 mm Pitch; Code_JEDEC: MS-013-AA; Code_IPC: SOIC127P1030-16; ComponentLink1Description: Manufacturer Link; ComponentLink1URL: http://www.ti.com/; ComponentLink2Description: Datasheet; ComponentLink2URL: http://www-s.ti.com/sc/ds/PGA204.pdf
footprint 211F_N (SOIC, 16-Leads, Body 10.3x7.5mm, Pitch 1.27mm, IPC Medium Density)
footprint 211F_L (SOIC, 16-Leads, Body 10.3x7.5mm, Pitch 1.27mm, IPC High Density)
footprint 211F_M (SOIC, 16-Leads, Body 10.3x7.5mm, Pitch 1.27mm, IPC Low Density)
3D model SOIC16 (16-Pin Small Outline Integrated Circuit 1.27 mm Pitch)
pins: 1 VO1 (out), 2 NC, 3 NC, 4 IN- (in), 5 IN+ (in), 6 OS ADJ, 7 OS ADJ, 8 -V (power), 9 VO2 (out), 10 REF (in), 11 OUT (out), 12 FB (in), 13 V+ (power), 14 DGND (power), 15 A0 (in), 16 A1 (in)

## PGA205AP
designator U?
Programmable Gain Instrumentation Amplifier; Note: Pins 2 and 3 are No internal Connection (NC) pins.; Published: 8-Jun-2000; LatestRevisionDate: 06-Jun-2005; LatestRevisionNote: Stylized 3D Model Added.; DatasheetVersion: Oct-1993; PackageVersion: revF; PackageReference: ZZ180; Publisher: Altium Limited; PackageDescription: DIP, Plastic; 16 Leads; Row Spacing 7.62 mm; Pitch 2.54 mm; Code_JEDEC: MS-001-BB; ComponentLink1Description: Manufacturer Link; ComponentLink1URL: http://www.ti.com/; ComponentLink2Description: Datasheet; ComponentLink2URL: http://www-s.ti.com/sc/ds/PGA204.pdf
footprint ZZ180 (DIP, Plastic; 16 Leads; Row Spacing 7.62 mm; Pitch 2.54 mm)
3D model ZZ180 (DIP, Plastic; 16 Leads; Row Spacing 7.62 mm; Pitch 2.54 mm)
pins: 1 VO1 (out), 2 NC, 3 NC, 4 IN- (in), 5 IN+ (in), 6 OS ADJ, 7 OS ADJ, 8 -V (power), 9 VO2 (out), 10 REF (in), 11 OUT (out), 12 FB (in), 13 V+ (power), 14 DGND (power), 15 A0 (in), 16 A1 (in)

## PGA205AU
designator U?
Programmable Gain Instrumentation Amplifier; Note: Pins 2 and 3 are No internal Connection (NC) pins.; Published: 8-Jun-2000; LatestRevisionDate: 13-Apr-2006; LatestRevisionNote: IPC-7351 Footprint Added.; DatasheetVersion: Oct-1993; PackageReference: 211F; Publisher: Altium Limited; PackageDescription: 16-Pin Small Outline Integrated Circuit 1.27 mm Pitch; Code_JEDEC: MS-013-AA; Code_IPC: SOIC127P1030-16; ComponentLink1Description: Manufacturer Link; ComponentLink1URL: http://www.ti.com/; ComponentLink2Description: Datasheet; ComponentLink2URL: http://www-s.ti.com/sc/ds/PGA204.pdf
footprint 211F_N (SOIC, 16-Leads, Body 10.3x7.5mm, Pitch 1.27mm, IPC Medium Density)
footprint 211F_L (SOIC, 16-Leads, Body 10.3x7.5mm, Pitch 1.27mm, IPC High Density)
footprint 211F_M (SOIC, 16-Leads, Body 10.3x7.5mm, Pitch 1.27mm, IPC Low Density)
3D model SOIC16 (16-Pin Small Outline Integrated Circuit 1.27 mm Pitch)
pins: 1 VO1 (out), 2 NC, 3 NC, 4 IN- (in), 5 IN+ (in), 6 OS ADJ, 7 OS ADJ, 8 -V (power), 9 VO2 (out), 10 REF (in), 11 OUT (out), 12 FB (in), 13 V+ (power), 14 DGND (power), 15 A0 (in), 16 A1 (in)

## PGA205BP
designator U?
Programmable Gain Instrumentation Amplifier; Note: Pins 2 and 3 are No internal Connection (NC) pins.; Published: 8-Jun-2000; LatestRevisionDate: 06-Jun-2005; LatestRevisionNote: Stylized 3D Model Added.; DatasheetVersion: Oct-1993; PackageVersion: revF; PackageReference: ZZ180; Publisher: Altium Limited; PackageDescription: DIP, Plastic; 16 Leads; Row Spacing 7.62 mm; Pitch 2.54 mm; Code_JEDEC: MS-001-BB; ComponentLink1Description: Manufacturer Link; ComponentLink1URL: http://www.ti.com/; ComponentLink2Description: Datasheet; ComponentLink2URL: http://www-s.ti.com/sc/ds/PGA204.pdf
footprint ZZ180 (DIP, Plastic; 16 Leads; Row Spacing 7.62 mm; Pitch 2.54 mm)
3D model ZZ180 (DIP, Plastic; 16 Leads; Row Spacing 7.62 mm; Pitch 2.54 mm)
pins: 1 VO1 (out), 2 NC, 3 NC, 4 IN- (in), 5 IN+ (in), 6 OS ADJ, 7 OS ADJ, 8 -V (power), 9 VO2 (out), 10 REF (in), 11 OUT (out), 12 FB (in), 13 V+ (power), 14 DGND (power), 15 A0 (in), 16 A1 (in)

## PGA205BU
designator U?
Programmable Gain Instrumentation Amplifier; Note: Pins 2 and 3 are No internal Connection (NC) pins.; Published: 8-Jun-2000; LatestRevisionDate: 13-Apr-2006; LatestRevisionNote: IPC-7351 Footprint Added.; DatasheetVersion: Oct-1993; PackageReference: 211F; Publisher: Altium Limited; PackageDescription: 16-Pin Small Outline Integrated Circuit 1.27 mm Pitch; Code_JEDEC: MS-013-AA; Code_IPC: SOIC127P1030-16; ComponentLink1Description: Manufacturer Link; ComponentLink1URL: http://www.ti.com/; ComponentLink2Description: Datasheet; ComponentLink2URL: http://www-s.ti.com/sc/ds/PGA204.pdf
footprint 211F_N (SOIC, 16-Leads, Body 10.3x7.5mm, Pitch 1.27mm, IPC Medium Density)
footprint 211F_L (SOIC, 16-Leads, Body 10.3x7.5mm, Pitch 1.27mm, IPC High Density)
footprint 211F_M (SOIC, 16-Leads, Body 10.3x7.5mm, Pitch 1.27mm, IPC Low Density)
3D model SOIC16 (16-Pin Small Outline Integrated Circuit 1.27 mm Pitch)
pins: 1 VO1 (out), 2 NC, 3 NC, 4 IN- (in), 5 IN+ (in), 6 OS ADJ, 7 OS ADJ, 8 -V (power), 9 VO2 (out), 10 REF (in), 11 OUT (out), 12 FB (in), 13 V+ (power), 14 DGND (power), 15 A0 (in), 16 A1 (in)

## PGA206P
designator U?
High-Speed Programmable Gain Instrumentation Amplifier; Note: Pins 2 and 3 are No internal Connection (NC) pins.; Published: 8-Jun-2000; LatestRevisionDate: 06-Jun-2005; LatestRevisionNote: Stylized 3D Model Added.; DatasheetVersion: May-1995; PackageVersion: revF; PackageReference: ZZ180; Publisher: Altium Limited; PackageDescription: DIP, Plastic; 16 Leads; Row Spacing 7.62 mm; Pitch 2.54 mm; Code_JEDEC: MS-001-BB; ComponentLink1Description: Manufacturer Link; ComponentLink1URL: http://www.ti.com/; ComponentLink2Description: Datasheet; ComponentLink2URL: http://www-s.ti.com/sc/ds/PGA206.pdf
footprint ZZ180 (DIP, Plastic; 16 Leads; Row Spacing 7.62 mm; Pitch 2.54 mm)
3D model ZZ180 (DIP, Plastic; 16 Leads; Row Spacing 7.62 mm; Pitch 2.54 mm)
simulation model PGA206 (SUBCKT)
pins: 1 VO1 (out), 2 NC, 3 NC, 4 IN- (in), 5 IN+ (in), 6 OS ADJ, 7 OS ADJ, 8 V- (power), 9 VO2 (out), 10 REF (in), 11 OUT (out), 12 SEN (in), 13 V+ (power), 14 DGND (power), 15 A0 (in), 16 A1 (in)

## PGA206PA
designator U?
High-Speed Programmable Gain Instrumentation Amplifier; Note: Pins 2 and 3 are No internal Connection (NC) pins.; Published: 8-Jun-2000; LatestRevisionDate: 06-Jun-2005; LatestRevisionNote: Stylized 3D Model Added.; DatasheetVersion: May-1995; PackageVersion: revF; PackageReference: ZZ180; Publisher: Altium Limited; PackageDescription: DIP, Plastic; 16 Leads; Row Spacing 7.62 mm; Pitch 2.54 mm; Code_JEDEC: MS-001-BB; ComponentLink1Description: Manufacturer Link; ComponentLink1URL: http://www.ti.com/; ComponentLink2Description: Datasheet; ComponentLink2URL: http://www-s.ti.com/sc/ds/PGA206.pdf
footprint ZZ180 (DIP, Plastic; 16 Leads; Row Spacing 7.62 mm; Pitch 2.54 mm)
3D model ZZ180 (DIP, Plastic; 16 Leads; Row Spacing 7.62 mm; Pitch 2.54 mm)
simulation model PGA206 (SUBCKT)
pins: 1 VO1 (out), 2 NC, 3 NC, 4 IN- (in), 5 IN+ (in), 6 OS ADJ, 7 OS ADJ, 8 V- (power), 9 VO2 (out), 10 REF (in), 11 OUT (out), 12 SEN (in), 13 V+ (power), 14 DGND (power), 15 A0 (in), 16 A1 (in)

## PGA206U
designator U?
High-Speed Programmable Gain Instrumentation Amplifier; Note: Pins 2 and 3 are No internal Connection (NC) pins.; Published: 8-Jun-2000; LatestRevisionDate: 13-Apr-2006; LatestRevisionNote: IPC-7351 Footprint Added.; DatasheetVersion: May-1995; PackageReference: 211F; Publisher: Altium Limited; PackageDescription: 16-Pin Small Outline Integrated Circuit 1.27 mm Pitch; Code_JEDEC: MS-013-AA; Code_IPC: SOIC127P1030-16; ComponentLink1Description: Manufacturer Link; ComponentLink1URL: http://www.ti.com/; ComponentLink2Description: Datasheet; ComponentLink2URL: http://www-s.ti.com/sc/ds/PGA206.pdf
footprint 211F_N (SOIC, 16-Leads, Body 10.3x7.5mm, Pitch 1.27mm, IPC Medium Density)
footprint 211F_L (SOIC, 16-Leads, Body 10.3x7.5mm, Pitch 1.27mm, IPC High Density)
footprint 211F_M (SOIC, 16-Leads, Body 10.3x7.5mm, Pitch 1.27mm, IPC Low Density)
3D model SOIC16 (16-Pin Small Outline Integrated Circuit 1.27 mm Pitch)
simulation model PGA206 (SUBCKT)
pins: 1 VO1 (out), 2 NC, 3 NC, 4 IN- (in), 5 IN+ (in), 6 OS ADJ, 7 OS ADJ, 8 V- (power), 9 VO2 (out), 10 REF (in), 11 OUT (out), 12 SEN (in), 13 V+ (power), 14 DGND (power), 15 A0 (in), 16 A1 (in)

## PGA206UA
designator U?
High-Speed Programmable Gain Instrumentation Amplifier; Note: Pins 2 and 3 are No internal Connection (NC) pins.; Published: 8-Jun-2000; LatestRevisionDate: 13-Apr-2006; LatestRevisionNote: IPC-7351 Footprint Added.; DatasheetVersion: May-1995; PackageReference: 211F; Publisher: Altium Limited; PackageDescription: 16-Pin Small Outline Integrated Circuit 1.27 mm Pitch; Code_JEDEC: MS-013-AA; Code_IPC: SOIC127P1030-16; ComponentLink1Description: Manufacturer Link; ComponentLink1URL: http://www.ti.com/; ComponentLink2Description: Datasheet; ComponentLink2URL: http://www-s.ti.com/sc/ds/PGA206.pdf
footprint 211F_N (SOIC, 16-Leads, Body 10.3x7.5mm, Pitch 1.27mm, IPC Medium Density)
footprint 211F_L (SOIC, 16-Leads, Body 10.3x7.5mm, Pitch 1.27mm, IPC High Density)
footprint 211F_M (SOIC, 16-Leads, Body 10.3x7.5mm, Pitch 1.27mm, IPC Low Density)
3D model SOIC16 (16-Pin Small Outline Integrated Circuit 1.27 mm Pitch)
simulation model PGA206 (SUBCKT)
pins: 1 VO1 (out), 2 NC, 3 NC, 4 IN- (in), 5 IN+ (in), 6 OS ADJ, 7 OS ADJ, 8 V- (power), 9 VO2 (out), 10 REF (in), 11 OUT (out), 12 SEN (in), 13 V+ (power), 14 DGND (power), 15 A0 (in), 16 A1 (in)

## PGA207P
designator U?
High-Speed Programmable Gain Instrumentation Amplifier; Note: Pins 2 and 3 are No internal Connection (NC) pins.; Published: 8-Jun-2000; LatestRevisionDate: 06-Jun-2005; LatestRevisionNote: Stylized 3D Model Added.; DatasheetVersion: May-1995; PackageVersion: revF; PackageReference: ZZ180; Publisher: Altium Limited; PackageDescription: DIP, Plastic; 16 Leads; Row Spacing 7.62 mm; Pitch 2.54 mm; Code_JEDEC: MS-001-BB; ComponentLink1Description: Manufacturer Link; ComponentLink1URL: http://www.ti.com/; ComponentLink2Description: Datasheet; ComponentLink2URL: http://www-s.ti.com/sc/ds/PGA206.pdf
footprint ZZ180 (DIP, Plastic; 16 Leads; Row Spacing 7.62 mm; Pitch 2.54 mm)
3D model ZZ180 (DIP, Plastic; 16 Leads; Row Spacing 7.62 mm; Pitch 2.54 mm)
simulation model PGA207 (SUBCKT)
pins: 1 VO1 (out), 2 NC, 3 NC, 4 IN- (in), 5 IN+ (in), 6 OS ADJ, 7 OS ADJ, 8 V- (power), 9 VO2 (out), 10 REF (in), 11 OUT (out), 12 SEN (in), 13 V+ (power), 14 DGND (power), 15 A0 (in), 16 A1 (in)

## PGA207PA
designator U?
High-Speed Programmable Gain Instrumentation Amplifier; Note: Pins 2 and 3 are No internal Connection (NC) pins.; Published: 8-Jun-2000; LatestRevisionDate: 06-Jun-2005; LatestRevisionNote: Stylized 3D Model Added.; DatasheetVersion: May-1995; PackageVersion: revF; PackageReference: ZZ180; Publisher: Altium Limited; PackageDescription: DIP, Plastic; 16 Leads; Row Spacing 7.62 mm; Pitch 2.54 mm; Code_JEDEC: MS-001-BB; ComponentLink1Description: Manufacturer Link; ComponentLink1URL: http://www.ti.com/; ComponentLink2Description: Datasheet; ComponentLink2URL: http://www-s.ti.com/sc/ds/PGA206.pdf
footprint ZZ180 (DIP, Plastic; 16 Leads; Row Spacing 7.62 mm; Pitch 2.54 mm)
3D model ZZ180 (DIP, Plastic; 16 Leads; Row Spacing 7.62 mm; Pitch 2.54 mm)
simulation model PGA207 (SUBCKT)
pins: 1 VO1 (out), 2 NC, 3 NC, 4 IN- (in), 5 IN+ (in), 6 OS ADJ, 7 OS ADJ, 8 V- (power), 9 VO2 (out), 10 REF (in), 11 OUT (out), 12 SEN (in), 13 V+ (power), 14 DGND (power), 15 A0 (in), 16 A1 (in)

## PGA207U
designator U?
High-Speed Programmable Gain Instrumentation Amplifier; Note: Pins 2 and 3 are No internal Connection (NC) pins.; Published: 8-Jun-2000; LatestRevisionDate: 13-Apr-2006; LatestRevisionNote: IPC-7351 Footprint Added.; DatasheetVersion: May-1995; PackageReference: 211F; Publisher: Altium Limited; PackageDescription: 16-Pin Small Outline Integrated Circuit 1.27 mm Pitch; Code_JEDEC: MS-013-AA; Code_IPC: SOIC127P1030-16; ComponentLink1Description: Manufacturer Link; ComponentLink1URL: http://www.ti.com/; ComponentLink2Description: Datasheet; ComponentLink2URL: http://www-s.ti.com/sc/ds/PGA206.pdf
footprint 211F_N (SOIC, 16-Leads, Body 10.3x7.5mm, Pitch 1.27mm, IPC Medium Density)
footprint 211F_L (SOIC, 16-Leads, Body 10.3x7.5mm, Pitch 1.27mm, IPC High Density)
footprint 211F_M (SOIC, 16-Leads, Body 10.3x7.5mm, Pitch 1.27mm, IPC Low Density)
3D model SOIC16 (16-Pin Small Outline Integrated Circuit 1.27 mm Pitch)
simulation model PGA207 (SUBCKT)
pins: 1 VO1 (out), 2 NC, 3 NC, 4 IN- (in), 5 IN+ (in), 6 OS ADJ, 7 OS ADJ, 8 V- (power), 9 VO2 (out), 10 REF (in), 11 OUT (out), 12 SEN (in), 13 V+ (power), 14 DGND (power), 15 A0 (in), 16 A1 (in)